# Altium schematic symbol library mosfet_n_1g_3s_4d.SchLib: 1 symbol
Pins are listed as number, name and electrical type; pins without a type are passive.

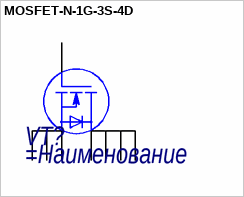
[diagram p0: symbol MOSFET-N-1G-3S-4D]

## MOSFET-N-1G-3S-4D
designator VT?
=Описание
pins: D, D, D, D, G, S, S   , S